# Altium schematic symbol library HT-HC01.SchLib: 1 symbol
Pins are listed as number, name and electrical type; pins without a type are passive.

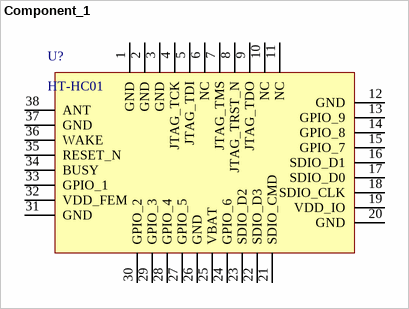
[diagram p0: symbol Component_1]

## Component_1
designator U?, comment HT-HC01
pins: 1 GND, 2 GND, 3 GND, 4 JTAG_TCK, 5 JTAG_TDI, 6 NC, 7 JTAG_TMS, 8 JTAG_TRST_N, 9 JTAG_TDO, 10 NC, 11 NC, 12 GND, 13 GPIO_9, 14 GPIO_8, 15 GPIO_7, 16 SDIO_D1, 17 SDIO_D0, 18 SDIO_CLK, 19 VDD_IO, 20 GND, 21 SDIO_CMD, 22 SDIO_D3, 23 SDIO_D2, 24 GPIO_6, 25 VBAT, 26 GND, 27 GPIO_5, 28 GPIO_4, 29 GPIO_3, 30 GPIO_2, 31 GND, 32 VDD_FEM, 33 GPIO_1, 34 BUSY, 35 RESET_N, 36 WAKE, 37 GND, 38 ANT